# Altium footprint library MOLEX_532611571.PcbLib: 1 footprints
Each footprint in its own frame and in the unit in brackets; x right, y up, seen from the top. Pads: shape width x height; smd on the part's side, far side on the other; paste and mask are expansions set on the pad; w line width, h text height; cw(c..) or ccw(c..) is an arc to the next point about the centre after c.
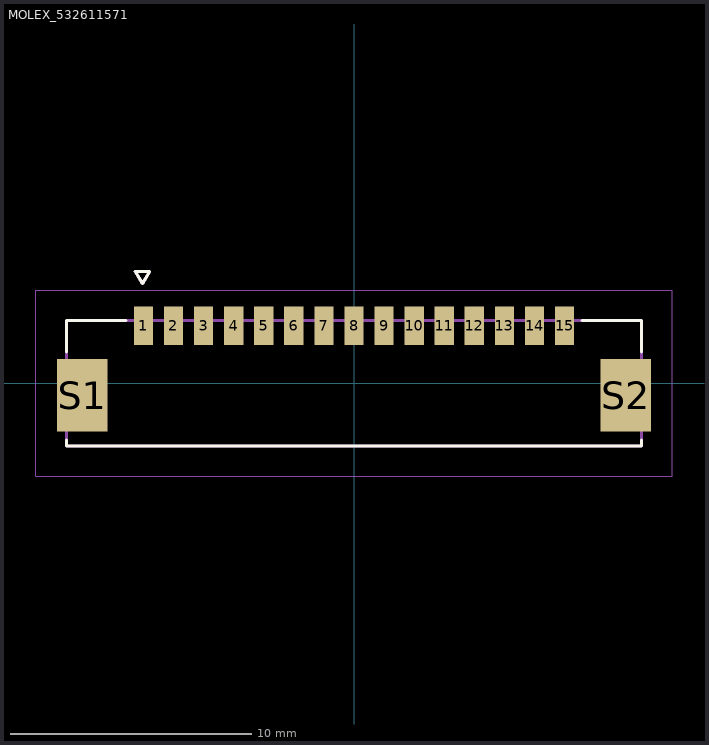
[diagram p0: the footprint, top view; thin cyan lines are the x and y axes]

## MOLEX_532611571 [mm]
height 3.4
pads (17):
  rect 0.8x1.6 smd mask+0.076: 1(-8.75,2.4) 2(-7.5,2.4) 3(-6.25,2.4) 4(-5,2.4) 5(-3.75,2.4) 6(-2.5,2.4) 7(-1.25,2.4) 8(0,2.4) 9(1.25,2.4) 10(2.5,2.4) 11(3.75,2.4) 12(5,2.4) 13(6.25,2.4) 14(7.5,2.4) 15(8.75,2.4)
  rect 2.1x3 smd mask+0.076: S1(-11.3,-0.5) S2(11.3,-0.5)
Top Overlay:
  lines w0.127: -11.95,-2.35 -11.95,-2.6 11.95,-2.6 11.95,-2.35 ; -11.95,1.3 -11.95,2.6 -9.47,2.6 ; 9.47,2.6 11.95,2.6 11.95,1.3 ; -9.088,4.642 -8.488,4.642 -8.788,4.142 -9.088,4.642
Assembly Top:
  lines w0.127: -11.95,-2.6 11.95,-2.6 11.95,2.6 -11.95,2.6 -11.95,-2.6 ; -9.088,4.642 -8.488,4.642 -8.788,4.142 -9.088,4.642
Courtyard Top:
  lines w0.05: -13.22,-3.87 13.22,-3.87 13.22,3.87 -13.22,3.87 -13.22,-3.87
3D body "532611571.stp": height 3.2, standoff -0.2, extent -11.95,-2.6 11.95,2.6